# EAGLE library part MCP79400-I/SN (library Badge_v202004081200_Eagle_Library_regex)
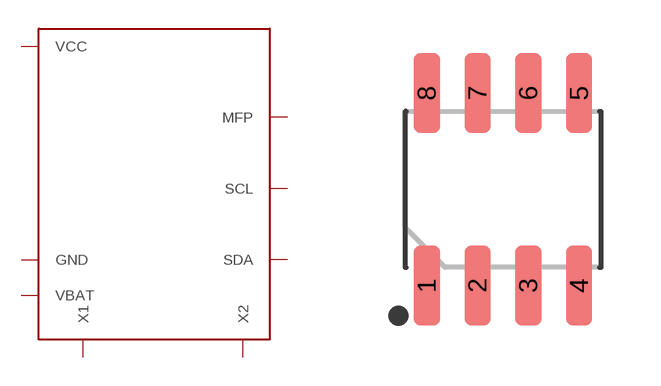
[diagram p1: symbol with the pads of SOIC8P127_490X600X175L83X41N_AD4; footprint SOIC8P127_490X600X175L83X41N_AD4]

Designator prefix U

## MCP79400-I/SN (DATASHEET: http://datasheets.diptrace.com/microchip/20005009f.pdf; MANUFACTURER: Microchip)  [SOIC8P127_490X600X175L83X41N_AD4]
1  X1  in
2  X2  out
3  VBAT  pwr
4  GND  pwr
5  SDA
6  SCL
7  MFP  out
8  VCC  pwr

## Footprint SOIC8P127_490X600X175L83X41N_AD4 (pad centres in mm)
smd 0.66 x 2: 1 -1.905,-2.405; 2 -0.635,-2.405; 3 0.635,-2.405; 4 1.905,-2.405; 5 1.905,2.405; 6 0.635,2.405; 7 -0.635,2.405; 8 -1.905,2.405